# Altium schematic symbol library SpaceVNXBaseBoard.SCHLIB: 96 symbols (part 2 of 3)
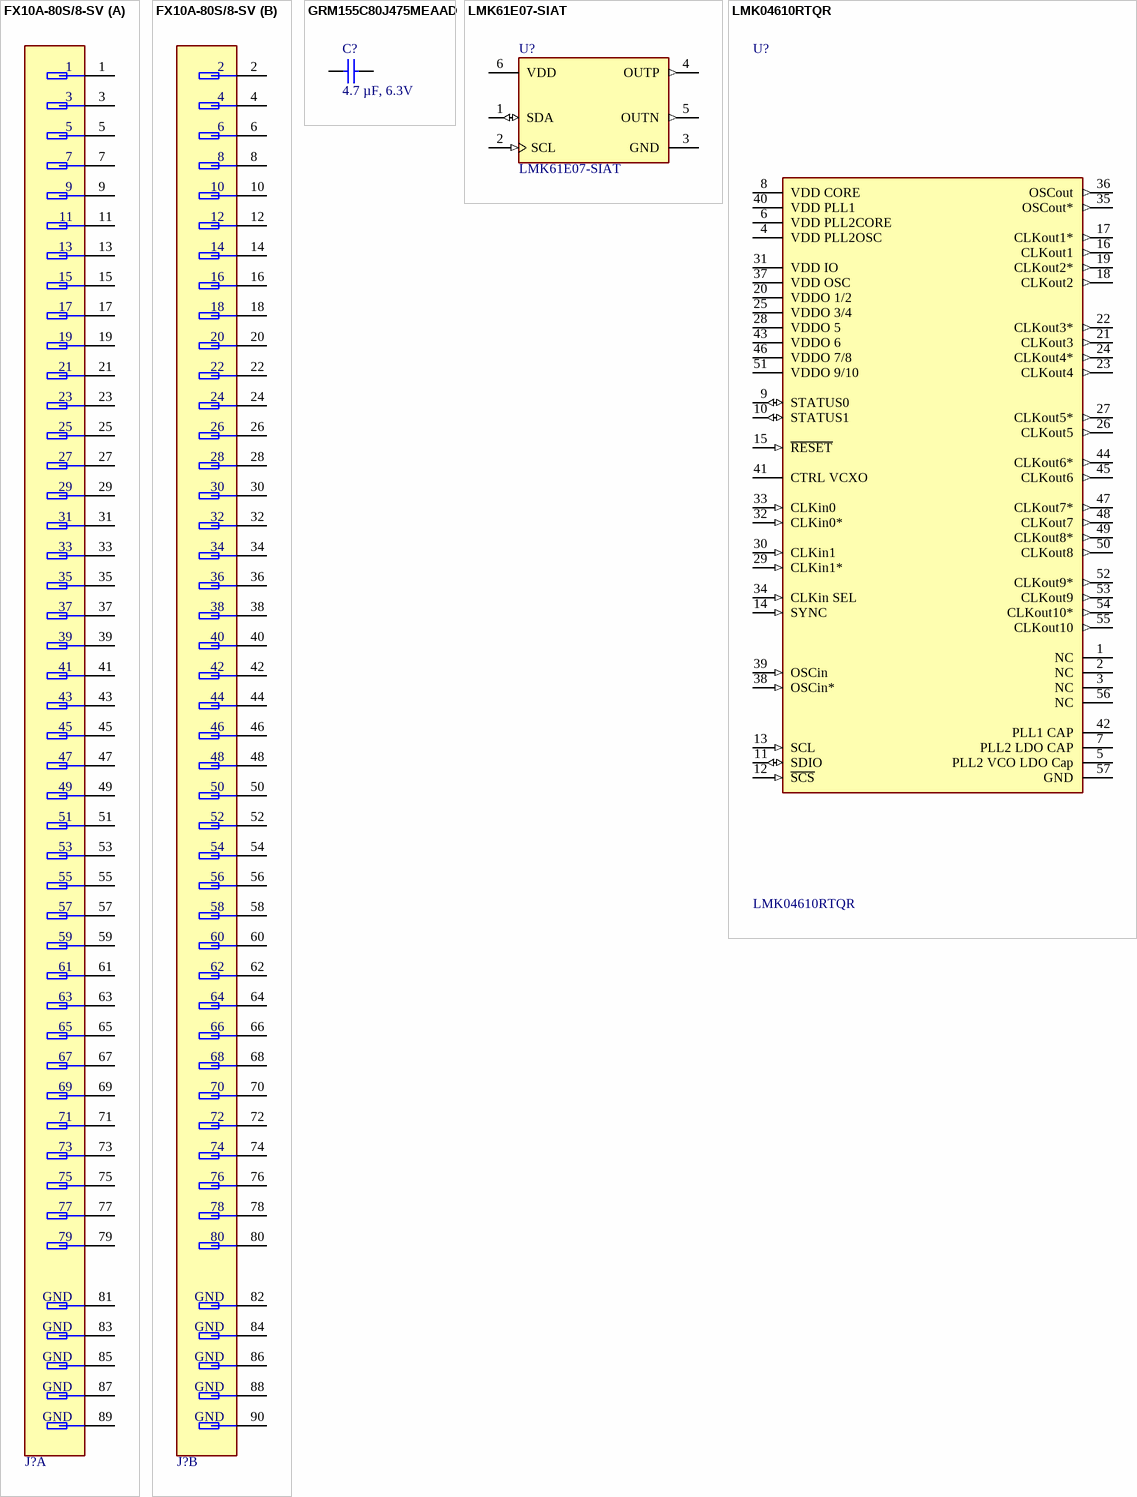
[diagram p13: symbols FX10A-80S/8-SV to LMK04610RTQR]

## LMK04610RTQR
designator U?
Ultra low-noise and low power JESD204B compliant clock jitter cleaner with dual PLLs.; Number of outputs: 10; RMS jitter (fs): 65; Output frequency (Min) (MHz): 0.03; Output frequency (Max) (MHz): 2000; Function: Dual-loop PLL; Input type: LVCMOS, LVDS, LVPECL; Output type: LVDS, LVPECL; Supply voltage (Min) (V): 1.7; Supply voltage (Max) (V): 3.465; ComponentLink1Description: Manufacturer; ComponentLink1URL: https://www.ti.com/product/LMK04828; ComponentLink2Description: Datasheet; ComponentLink2URL: https://www.ti.com/lit/ds/symlink/lmk04828.pdf?ts=1643235840450&ref_url=https%253A%252F%252Fwww.ti.com%252Fproduct%252FLMK04828; ComponentLink3Description: Package Specification; ComponentLink3URL: https://www.ti.com/lit/ml/mpqs032a/mpqs032a.pdf?ts=1643290177634&ref_url=https%253A%252F%252Fwww.ti.com%252Fpackaging%252Fdocs%252Fsearchproductbypackage.tsp%253ForderablePartNumber%253D%2526packageDesignator%253DNKD%2526pinCount%253D64%2526results%253Dresults; Operating temperature range (ºC): -40ºC to 85ºC; Supplier 1: Digi-Key; Supplier 2: Digi-Key; Supplier Part Number 1: 296-51339-1-ND; Supplier Part Number 2: 296-51339-6-ND
footprint TEXAS_VQFN56 (RTQ, 0.5mm pitch, 8x8mm body)
pins: 1 NC, 2 NC, 3 NC, 4 VDD PLL2OSC (power), 5 PLL2 VCO LDO Cap (power), 6 VDD PLL2CORE (power), 7 PLL2 LDO CAP (power), 8 VDD CORE (power), 9 STATUS0 (io), 10 STATUS1 (io), 11 SDIO (io), 12 ~{SCS} (in), 13 SCL (in), 14 SYNC (in), 15 ~{RESET} (in), 16 CLKout1 (out), 17 CLKout1* (out), 18 CLKout2 (out), 19 CLKout2* (out), 20 VDDO 1/2 (power), 21 CLKout3 (out), 22 CLKout3* (out), 23 CLKout4 (out), 24 CLKout4* (out), 25 VDDO 3/4 (power), 26 CLKout5 (out), 27 CLKout5* (out), 28 VDDO 5 (power), 29 CLKin1* (in), 30 CLKin1 (in), 31 VDD IO (power), 32 CLKin0* (in), 33 CLKin0 (in), 34 CLKin SEL (in), 35 OSCout* (out), 36 OSCout (out), 37 VDD OSC (power), 38 OSCin* (in), 39 OSCin (in), 40 VDD PLL1 (power), 41 CTRL VCXO (power), 42 PLL1 CAP, 43 VDDO 6 (power), 44 CLKout6* (out), 45 CLKout6 (out), 46 VDDO 7/8 (power), 47 CLKout7* (out), 48 CLKout7 (out), 49 CLKout8* (out), 50 CLKout8 (out), 51 VDDO 9/10 (power), 52 CLKout9* (out), 53 CLKout9 (out), 54 CLKout10* (out), 55 CLKout10 (out), 56 NC, 57 GND (power)

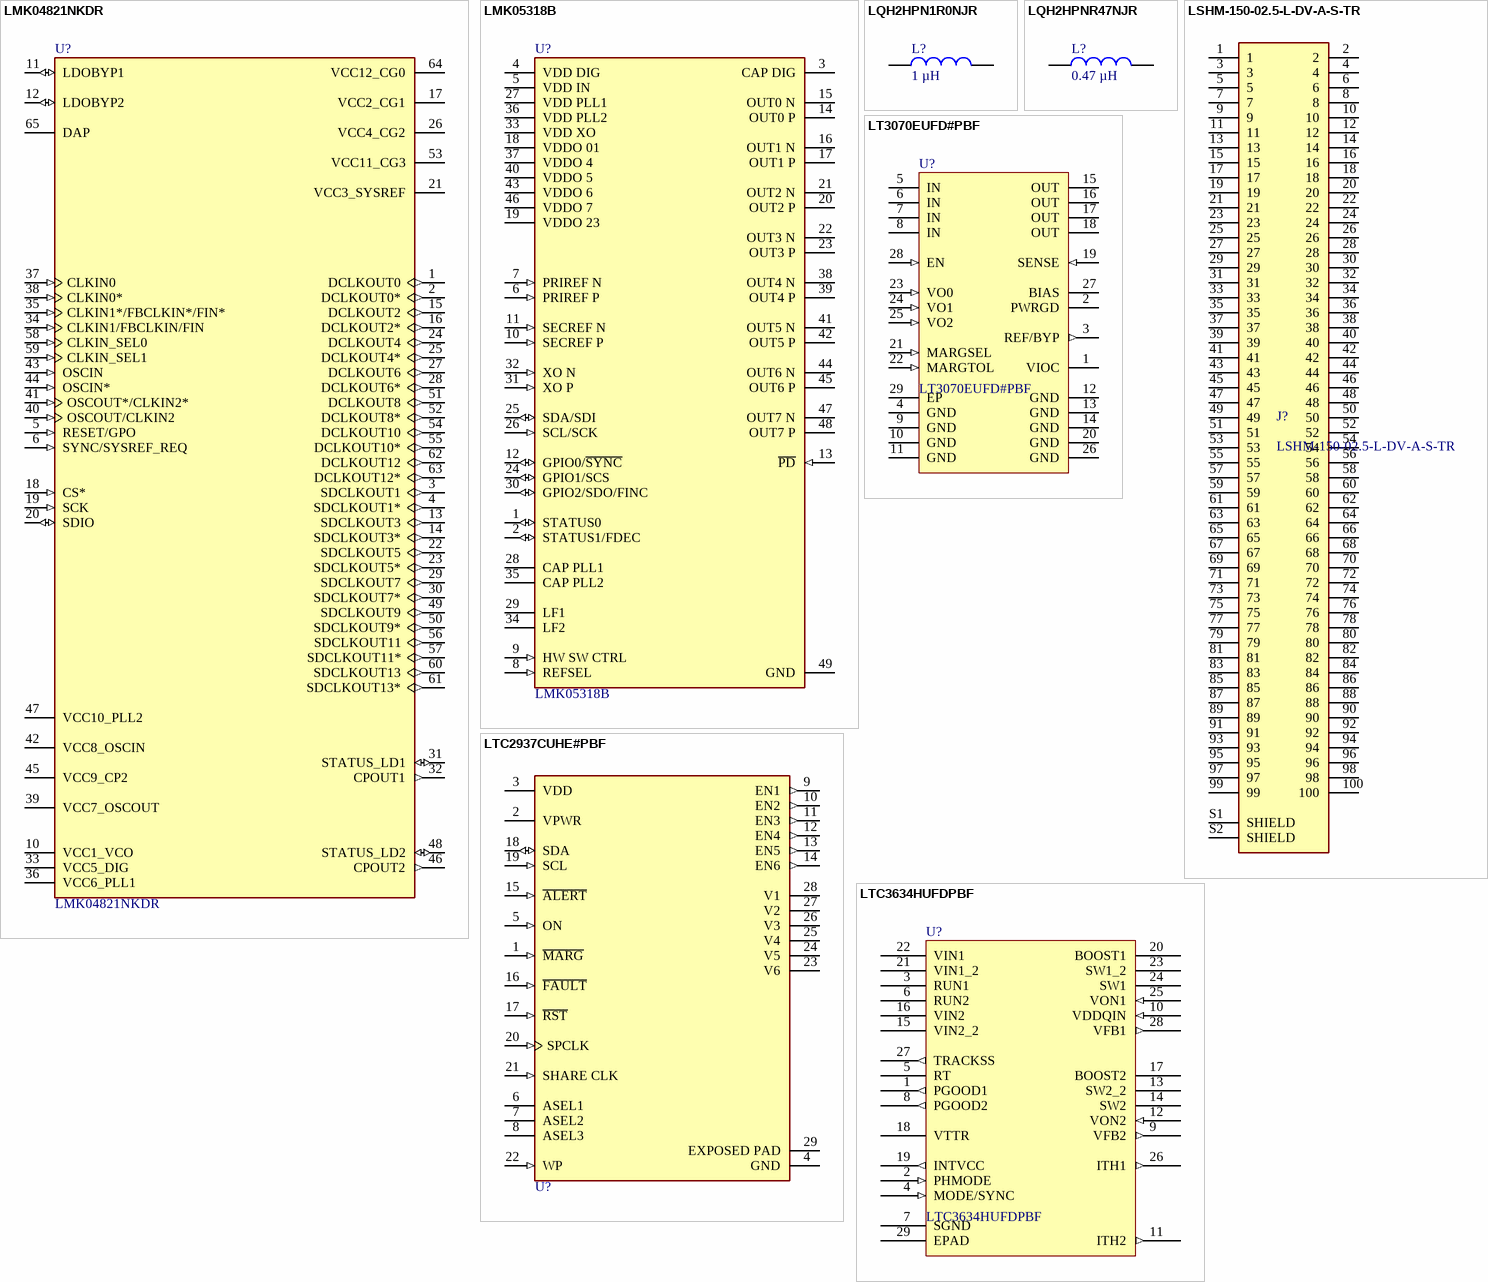
[diagram p3: symbols LMK04821NKDR to LTC3634HUFDPBF]

## LMK04821NKDR
designator U?
Ultra low-noise JESD204B compliant clock jitter cleaner with integrated 2370 to 2630-MHz VCO.; Number of outputs: 15; RMS jitter (fs): 88; Output frequency (Min) (MHz): 0.289; Output frequency (Max) (MHz): 3080; Function: Dual-loop PLL; Input type: LVCMOS, LVDS, LVPECL; Supply voltage (Min) (V): 3.15; Supply voltage (Max) (V): 3.45; ComponentLink1Description: Manufacturer; ComponentLink1URL: https://www.ti.com/product/LMK04828; ComponentLink2Description: Datasheet; ComponentLink2URL: https://www.ti.com/lit/ds/symlink/lmk04828.pdf?ts=1643235840450&ref_url=https%253A%252F%252Fwww.ti.com%252Fproduct%252FLMK04828; ComponentLink3Description: Package Specification; ComponentLink3URL: https://www.ti.com/lit/ml/mpqs032a/mpqs032a.pdf?ts=1643290177634&ref_url=https%253A%252F%252Fwww.ti.com%252Fpackaging%252Fdocs%252Fsearchproductbypackage.tsp%253ForderablePartNumber%253D%2526packageDesignator%253DNKD%2526pinCount%253D64%2526results%253Dresults; Output type: LVCMOS, LVDS, LVPECL; Operating temperature range (ºC): -40ºC to 85ºC; Supplier 1: Digi-Key; Supplier Part Number 1: LMK04821NKDR-ND
footprint TEXAS_WQFN64
pins: 1 DCLKOUT0 (out), 2 DCLKOUT0* (out), 3 SDCLKOUT1 (out), 4 SDCLKOUT1* (out), 5 RESET/GPO (in), 6 SYNC/SYSREF_REQ (in), 10 VCC1_VCO (power), 11 LDOBYP1 (io), 12 LDOBYP2 (io), 13 SDCLKOUT3 (out), 14 SDCLKOUT3* (out), 15 DCLKOUT2 (out), 16 DCLKOUT2* (out), 17 VCC2_CG1 (power), 18 CS* (in), 19 SCK (in), 20 SDIO (io), 21 VCC3_SYSREF (power), 22 SDCLKOUT5 (out), 23 SDCLKOUT5* (out), 24 DCLKOUT4 (out), 25 DCLKOUT4* (out), 26 VCC4_CG2 (power), 27 DCLKOUT6 (out), 28 DCLKOUT6* (out), 29 SDCLKOUT7 (out), 30 SDCLKOUT7* (out), 31 STATUS_LD1 (io), 32 CPOUT1 (out), 33 VCC5_DIG (power), 34 CLKIN1/FBCLKIN/FIN (in), 35 CLKIN1*/FBCLKIN*/FIN* (in), 36 VCC6_PLL1 (power), 37 CLKIN0 (in), 38 CLKIN0* (in), 39 VCC7_OSCOUT (power), 40 OSCOUT/CLKIN2 (in), 41 OSCOUT*/CLKIN2* (in), 42 VCC8_OSCIN (power), 43 OSCIN (in), 44 OSCIN* (in), 45 VCC9_CP2 (power), 46 CPOUT2 (out), 47 VCC10_PLL2 (power), 48 STATUS_LD2 (io), 49 SDCLKOUT9 (out), 50 SDCLKOUT9* (out), 51 DCLKOUT8 (out), 52 DCLKOUT8* (out), 53 VCC11_CG3 (power), 54 DCLKOUT10 (out), 55 DCLKOUT10* (out), 56 SDCLKOUT11 (out), 57 SDCLKOUT11* (out), 58 CLKIN_SEL0 (in), 59 CLKIN_SEL1 (in), 60 SDCLKOUT13 (out), 61 SDCLKOUT13* (out), 62 DCLKOUT12 (out), 63 DCLKOUT12* (out), 64 VCC12_CG0 (power), 65 DAP (power)

## LMK05318B
designator U?
Ultra-low jitter single channel network synchronizer clock with BAW; Input type: LVCMOS, LVDS, LVPECL, XTAL; Output type: LVDS, CML, LVPECL, HCSL, LVCMOS; Output frequency (Min) (MHz): 0.000001; Output frequency (Max) (MHz): 800; Supply voltage (Min) (V): 3.135; Supply voltage (Max) (V): 3.465; RMS jitter (fs): 50; Number of outputs: 8; Function: Clock network synchronizer; Operating temperature range (C): -40 to 85; Package: VQFN48; Supplier 1: Digi-Key; Supplier 2: Mouser; Supplier Part Number 1: 296-LMK05318BRGZTCT-ND; Supplier Part Number 2: 595-LMK05318BRGZT
footprint TEXAS_VQFN48 (RGZ, 0.5mm pitch, 7x7mm body)
pins: 1 STATUS0 (io), 2 STATUS1/FDEC (io), 3 CAP DIG, 4 VDD DIG (power), 5 VDD IN (power), 6 PRIREF P (in), 7 PRIREF N (in), 8 REFSEL (in), 9 HW SW CTRL (in), 10 SECREF P (in), 11 SECREF N (in), 12 GPIO0/~{SYNC} (io), 13 ~{PD} (in), 14 OUT0 P, 15 OUT0 N, 16 OUT1 N, 17 OUT1 P, 18 VDDO 01 (power), 19 VDDO 23 (power), 20 OUT2 P, 21 OUT2 N, 22 OUT3 N, 23 OUT3 P, 24 GPIO1/SCS (io), 25 SDA/SDI (io), 26 SCL/SCK (in), 27 VDD PLL1 (power), 28 CAP PLL1, 29 LF1, 30 GPIO2/SDO/FINC (io), 31 XO P (in), 32 XO N (in), 33 VDD XO (power), 34 LF2, 35 CAP PLL2, 36 VDD PLL2 (power), 37 VDDO 4 (power), 38 OUT4 N, 39 OUT4 P, 40 VDDO 5 (power), 41 OUT5 N, 42 OUT5 P, 43 VDDO 6 (power), 44 OUT6 N, 45 OUT6 P, 46 VDDO 7 (power), 47 OUT7 N, 48 OUT7 P, 49 GND (power)

## LQH2HPN1R0NJR
designator L?, comment 1 µH
Wire Wound Ferrite Inductor; Manufacturer: Murata; Inductance: 470 nH - 22 µH; AEC 200: Grade 0; Length (mm): 2.5; Width (mm): 2; ComponentLink1Description: Manufacturer; ComponentLink1URL: https://www.murata.com/search/productsearch?cate=cgInductors&partno=LQH2HPN_JR&realtime=1&sort=d_inductance; Height (mm): 1.2; Operating temperature range (C): −40°C to +125°C; Series: LQH2HPN_JR; Supplier 1: Digi-Key; Supplier 2: Mouser; Supplier Part Number 1: 490-9898-1-ND; Supplier Part Number 2: 81-LQH2HPN1R0NJRL
footprint Murata_LQH2HPN_JR (1008 (2520))
pins: 1, 2

## LQH2HPNR47NJR
designator L?, comment 0.47 µH
Wire Wound Ferrite Inductor; Manufacturer: Murata; Inductance: 470 nH - 22 µH; AEC 200: Grade 0; Length (mm): 2.5; Width (mm): 2; ComponentLink1Description: Manufacturer; ComponentLink1URL: https://www.murata.com/search/productsearch?cate=cgInductors&partno=LQH2HPN_JR&realtime=1&sort=d_inductance; Height (mm): 1.2; Operating temperature range (C): −40°C to +125°C; Series: LQH2HPN_JR; Supplier 1: Digi-Key; Supplier 2: Mouser; Supplier Part Number 1: 490-9906-1-ND; Supplier Part Number 2: 81-LQH2HPNR47NJRL
footprint Murata_LQH2HPN_JR (1008 (2520))
pins: 1, 2

## LSHM-150-02.5-L-DV-A-S-TR
designator J?
100 Position Connector Self Mating, Non-Gendered Surface Mount Gold; ComponentLink1Description: Manufacturer; ComponentLink1URL: https://www.samtec.com/products/lshm; System: Connector
footprint SAMTEC_LSHM-150-02.5-L-DV-A-S-TR
pins: 1, 2, 3, 4, 5, 6, 7, 8, 9, 10, 11, 12, 13, 14, 15, 16, 17, 18, 19, 20, 21, 22, 23, 24, 25, 26, 27, 28, 29, 30, 31, 32, 33, 34, 35, 36, 37, 38, 39, 40, 41, 42, 43, 44, 45, 46, 47, 48, 49, 50, 51, 52, 53, 54, 55, 56, 57, 58, 59, 60, 61, 62, 63, 64, 65, 66, 67, 68, 69, 70, 71, 72, 73, 74, 75, 76, 77, 78, 79, 80, 81, 82, 83, 84, 85, 86, 87, 88, 89, 90, 91, 92, 93, 94, 95, 96, 97, 98, 99, 100, S1 SHIELD, S2 SHIELD

## LT3070EUFD#PBF
designator U?
5 A, Low Noise, Programmable Output 85 mV Dropout Linear Regulator, 0.95 to 3 V Vin, Adjustable Vout, 28-pin QFN (UFD-28), -40 to 125 degC, Pb-Free; Manufacturer: Linear Technology; Iout(mA): 5000; Vin Min(V): 0.95; Number of Outputs: 1; PSRR(dB): 72; Vin Max(V): 3; Noise(uV): 25; Vout Min(V): 0.8; Dropout Voltage(V): 0.085; Discrete Pass Element: no; Output Voltage: Adj; Vout Max(V): 1.8; PartNumber: LT3070EUFD#PBF; Isupply(mA): 1; Mounting Technology: Surface Mount; PackageReference: UFD-28; PackageDescription: 28-Pin Plastic QFN, Body 5 x 4 mm, Pitch 0.5 mm; Supplier 1: Mouser; Supplier Part Number 1: 584-LT3070EUFD#PBF
footprint LTC_QFN28_UFD (28-Lead Plastic QFN (4mm × 5mm))
pins: 1 VIOC (power) "Voltage for In-to-Out Control. The IC incorporates a unique tracking function to control a buck regulator powering the LT3070’s input. The VIOC pin is the output of this tracking function that drives the buck regulator t(See Datasheet)", 2 PWRGD (oc) "Power Good. The PWRGD pin is an open-drain NMOS output that actively pulls low if any one of these fault modes is detected: • VOUT is less than 90% of VOUT(NOMINAL) on the rising edge of VOUT . • VOUT drops below 85%(See Datasheet)", 3 REF/BYP (out) "Reference Filter. The pin is the output of the bandgap reference and has an impedance of approximately 19kohm. This pin must not be externally loaded. Bypassing the REF/BYP pin to GND with a 10nF capacitor decreases output (See Datasheet)", 4 GND (power) "Ground. The exposed pad (Pin 29) of the QFN package is an electrical connection to GND. To ensure proper electrical and thermal performance, solder Pin 29 to the PCB ground and tie to all GND pins of the package. These GND (See Datasheet)", 5 IN (power) "Input Supply. These pins supply power to the high current pass transistor. Tie all IN pins together for proper performance. The LT3070 requires a bypass capacitor at IN to maintain stability and low input impedance over (See Datasheet)", 6 IN (power) "Input Supply. These pins supply power to the high current pass transistor. Tie all IN pins together for proper performance. The LT3070 requires a bypass capacitor at IN to maintain stability and low input impedance over (See Datasheet)", 7 IN (power) "Input Supply. These pins supply power to the high current pass transistor. Tie all IN pins together for proper performance. The LT3070 requires a bypass capacitor at IN to maintain stability and low input impedance over (See Datasheet)", 8 IN (power) "Input Supply. These pins supply power to the high current pass transistor. Tie all IN pins together for proper performance. The LT3070 requires a bypass capacitor at IN to maintain stability and low input impedance over (See Datasheet)", 9 GND (power) "Ground. The exposed pad (Pin 29) of the QFN package is an electrical connection to GND. To ensure proper electrical and thermal performance, solder Pin 29 to the PCB ground and tie to all GND pins of the package. These GND (See Datasheet)", 10 GND (power) "Ground. The exposed pad (Pin 29) of the QFN package is an electrical connection to GND. To ensure proper electrical and thermal performance, solder Pin 29 to the PCB ground and tie to all GND pins of the package. These GND (See Datasheet)", 11 GND (power) "Ground. The exposed pad (Pin 29) of the QFN package is an electrical connection to GND. To ensure proper electrical and thermal performance, solder Pin 29 to the PCB ground and tie to all GND pins of the package. These GND (See Datasheet)", 12 GND (power) "Ground. The exposed pad (Pin 29) of the QFN package is an electrical connection to GND. To ensure proper electrical and thermal performance, solder Pin 29 to the PCB ground and tie to all GND pins of the package. These GND (See Datasheet)", 13 GND (power) "Ground. The exposed pad (Pin 29) of the QFN package is an electrical connection to GND. To ensure proper electrical and thermal performance, solder Pin 29 to the PCB ground and tie to all GND pins of the package. These GND (See Datasheet)", 14 GND (power) "Ground. The exposed pad (Pin 29) of the QFN package is an electrical connection to GND. To ensure proper electrical and thermal performance, solder Pin 29 to the PCB ground and tie to all GND pins of the package. These GND (See Datasheet)", 15 OUT (power) "Output. These pins supply power to the load. Tie all OUT pins together for proper performance. A minimum output capacitance of 15uF is required for stability. LTC recommends low ESR, X5R or X7R dielectric ceramic capacitors (See Datasheet)", 16 OUT (power) "Output. These pins supply power to the load. Tie all OUT pins together for proper performance. A minimum output capacitance of 15uF is required for stability. LTC recommends low ESR, X5R or X7R dielectric ceramic capacitors (See Datasheet)", 17 OUT (power) "Output. These pins supply power to the load. Tie all OUT pins together for proper performance. A minimum output capacitance of 15uF is required for stability. LTC recommends low ESR, X5R or X7R dielectric ceramic capacitors (See Datasheet)", 18 OUT (power) "Output. These pins supply power to the load. Tie all OUT pins together for proper performance. A minimum output capacitance of 15uF is required for stability. LTC recommends low ESR, X5R or X7R dielectric ceramic capacitors (See Datasheet)", 19 SENSE (in) "Kelvin Sense for OUT . The SENSE pin is the inverting input to the error amplifier. Optimum regulation is obtained when the SENSE pin is connected to the OUT pins of the regulator. In critical applications, the resistance (See Datasheet)", 20 GND (power) "Ground. The exposed pad (Pin 29) of the QFN package is an electrical connection to GND. To ensure proper electrical and thermal performance, solder Pin 29 to the PCB ground and tie to all GND pins of the package. These GND (See Datasheet)", 21 MARGSEL (in) "Margining Enable and Polarity Selection. This three-state pin determines both the polarity and the active state of the margining function. The logic low threshold is less than 250mV referenced to GND and enables negative (See Datasheet)", 22 MARGTOL (in) "Margining Tolerance. This three-state pin selects the absolute value of margining (1%, 3% or 5%) if enabled by the MARGSEL input. The logic low threshold is less than 250mV referenced to GND and enables either +/-1% change (See Datasheet)", 23 VO0 (in) "Output Voltage Select. These three-state pins combine to select a nominal output voltage from 0.8V to 1.8V in increments of 50mV. Output voltage is limited to 1.8V maximum by an internal override of VO1 when VO2 = high. The (See Datasheet)", 24 VO1 (in) "Output Voltage Select. These three-state pins combine to select a nominal output voltage from 0.8V to 1.8V in increments of 50mV. Output voltage is limited to 1.8V maximum by an internal override of VO1 when VO2 = high. The (See Datasheet)", 25 VO2 (in) "Output Voltage Select. These three-state pins combine to select a nominal output voltage from 0.8V to 1.8V in increments of 50mV. Output voltage is limited to 1.8V maximum by an internal override of VO1 when VO2 = high. The (See Datasheet)", 26 GND (power) "Ground. The exposed pad (Pin 29) of the QFN package is an electrical connection to GND. To ensure proper electrical and thermal performance, solder Pin 29 to the PCB ground and tie to all GND pins of the package. These GND (See Datasheet)", 27 BIAS (power) "Bias Supply. This pin supplies current to the internal control circuitry and the output stage driving the pass transistor. The LT3070 requires a minimum 2.2uF bypass capacitor for stability and proper operation. To ensure (See Datasheet)", 28 EN (in) "Enable. This pin enables/disables the output device only. The internal reference and all support functions are active if VBIAS is above its UVLO threshold. Pulling EN low keeps the reference circuit active, but disables the (See Datasheet)", 29 EP (power) "Ground. The exposed pad (Pin 29) of the QFN package is an electrical connection to GND. To ensure proper electrical and thermal performance, solder Pin 29 to the PCB ground and tie to all GND pins of the package. These GND (See Datasheet)"

## LTC2937CUHE#PBF
designator U?  (value not drawn)
Programmable Six Channel Sequencer and Voltage Supervisor with EEPROM
footprint LTC_QFN28_UHE (28-Lead (5mm × 6mm) Plastic QFN)
pins: 1 ~{MARG} (in), 2 VPWR (power), 3 VDD (power), 4 GND (power), 5 ON (in), 6 ASEL1, 7 ASEL2, 8 ASEL3, 9 EN1 (out), 10 EN2 (out), 11 EN3 (out), 12 EN4 (out), 13 EN5 (out), 14 EN6 (out), 15 ~{ALERT} (in), 16 ~{FAULT} (in), 17 ~{RST} (in), 18 SDA (io), 19 SCL (in), 20 SPCLK (in), 21 SHARE CLK (in), 22 WP (in), 23 V6 (power), 24 V5 (power), 25 V4 (power), 26 V3 (power), 27 V2 (power), 28 V1 (power), 29 EXPOSED PAD (power)

## LTC3634HUFDPBF
designator U?
15V Dual 3A Monolithic Step-Down Regulator for DDR Power; Input Voltage Range: 3.6V to 15V; Maximun Efficiency: 95%; Switching Frequency: 500kHz to 4MHz; Output Current per Channel: ±3A; Package: UFD QFN 28; Supplier 1: Mouser; Supplier Part Number 1: 584-LTC3634EUFD#PBF
footprint LTC_QFN28_UFD (28-Lead Plastic QFN (4mm × 5mm))
pins: 1 PGOOD1 (out), 2 PHMODE (in), 3 RUN1, 4 MODE/SYNC (in), 5 RT, 6 RUN2, 7 SGND (power), 8 PGOOD2 (out), 9 VFB2 (out), 10 VDDQIN (in), 11 ITH2 (out), 12 VON2 (in), 13 SW2_2, 14 SW2, 15 VIN2_2 (power), 16 VIN2 (power), 17 BOOST2, 18 VTTR (power), 19 INTVCC (out), 20 BOOST1, 21 VIN1_2 (power), 22 VIN1 (power), 23 SW1_2, 24 SW1, 25 VON1 (in), 26 ITH1 (out), 27 TRACKSS (out), 28 VFB1 (out), 29 EPAD

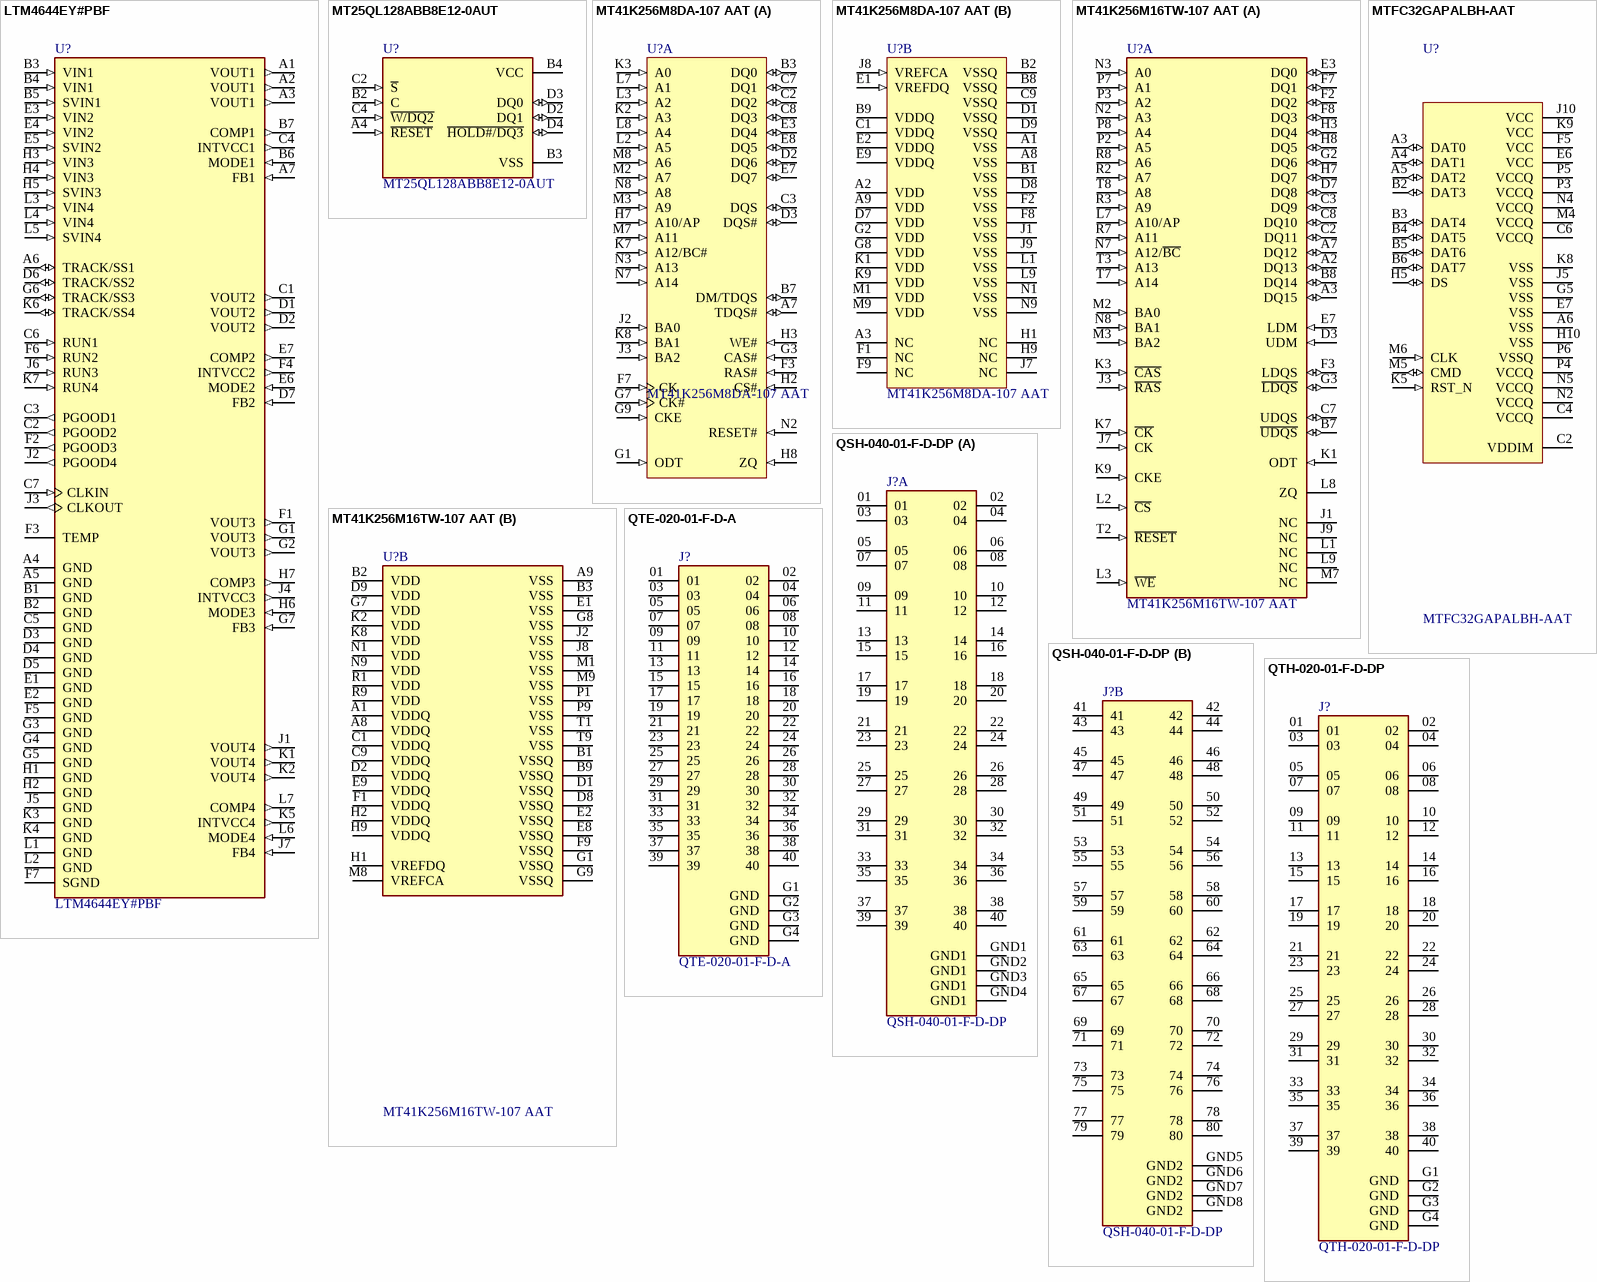
[diagram p4: symbols LTM4644EY#PBF to QTH-020-01-F-D-DP]

## LTM4644EY#PBF
designator U?
Non-Isolated PoL Module DC DC Converter 4 Output 0.6 ~ 5.5V 0.6 ~ 5.5V 0.6 ~ 5.5V 0.6 ~ 5.5V 4A, 4A, 4A, 4A 4V - 14V Input; Input Voltage Range: 4V to 14V; Number of Outputs: 4; Output Current: 4A; Package: 9mm × 15mm × 5.01mm BGA; Supplier 1: Mouser; Supplier Part Number 1: 584-LTM4644EY#PBF
footprint LTC_BGA77
pins: A1 VOUT1 (out), A2 VOUT1 (out), A3 VOUT1 (out), A4 GND (power), A5 GND (power), A6 TRACK/SS1 (io), A7 FB1 (in), B1 GND (power), B2 GND (power), B3 VIN1 (in), B4 VIN1 (in), B5 SVIN1 (in), B6 MODE1 (in), B7 COMP1 (out), C1 VOUT2 (out), C2 PGOOD2 (out), C3 PGOOD1 (out), C4 INTVCC1 (out), C5 GND (power), C6 RUN1 (in), C7 CLKIN (in), D1 VOUT2 (out), D2 VOUT2 (out), D3 GND (power), D4 GND (power), D5 GND (power), D6 TRACK/SS2 (io), D7 FB2 (in), E1 GND (power), E2 GND (power), E3 VIN2 (in), E4 VIN2 (in), E5 SVIN2 (in), E6 MODE2 (in), E7 COMP2 (out), F1 VOUT3 (out), F2 PGOOD3 (out), F3 TEMP, F4 INTVCC2 (out), F5 GND (power), F6 RUN2 (in), F7 SGND (power), G1 VOUT3 (out), G2 VOUT3 (out), G3 GND (power), G4 GND (power), G5 GND (power), G6 TRACK/SS3 (io), G7 FB3 (in), H1 GND (power), H2 GND (power), H3 VIN3 (in), H4 VIN3 (in), H5 SVIN3 (in), H6 MODE3 (in), H7 COMP3 (out), J1 VOUT4 (out), J2 PGOOD4 (out), J3 CLKOUT (out), J4 INTVCC3 (out), J5 GND (power), J6 RUN3 (in), J7 FB4 (in), K1 VOUT4 (out), K2 VOUT4 (out), K3 GND (power), K4 GND (power), K5 INTVCC4 (out), K6 TRACK/SS4 (io), K7 RUN4 (in), L1 GND (power), L2 GND (power), L3 VIN4 (in), L4 VIN4 (in), L5 SVIN4 (in), L6 MODE4 (in), L7 COMP4 (out)

## MT25QL128ABB8E12-0AUT
designator U?
NOR Serial Flash Memory 128Mb 3.3V Multiple I/O Automotive; MF: Micron Technology; FBGA Code: RW318; Density: 128Mb; Operating Temperature: -40ºC to +125ºC; Package: T-PBGA; Type: Multi I/O; Width: x1/x2/x4; Nominal Supply Voltage (DC): 3.3 V; Part Status: Production; ComponentLink1Description: Manufacturer URL; ComponentLink1URL: http://www.micron.com/; Supplier 1: Digi-Key; Supplier 2: Mouser; Supplier Part Number 1: MT25QL128ABB8E12-0AUT-ND; Supplier Part Number 2: 340-348677
footprint Micron_RW (24-Ball T-PBGA 6 x 8mm)
pins: A4 ~{RESET} (in), B2 C (in), B3 VSS (power), B4 VCC (power), C2 ~{S} (in), C4 ~{W/DQ2} (in), D2 DQ1 (io), D3 DQ0 (io), D4 ~{HOLD#/DQ3} (io)

## MT41K256M8DA-107 AAT
designator U?
DDR3L SDRAM; Data Rate: DDR3-1866; Density: 2Gb; FBGA Code: D9PST; Nominal Supply Voltage (DC): 1.35 V; ComponentLink1Description: Manufacturer URL; ComponentLink1URL: http://www.micron.com/; Operating Temperature: -40ºC to +105ºC; Width: x8; Part Status: Production; Depth: 256 Meg; Supplier 1: Mouser; Supplier Part Number 1: 340-135717-TRAY
footprint Micron_DA (78-Ball FBGA 8 x 10 mm)
part A pins: A7 TDQS# (io) "Termination data strobe: Applies to the x8 configuration only. When TDQS is enabled, DM is disabled, and the TDQS and TDQS# balls provide termination resistance.", B3 DQ0 (io) "Data input/output: Bidirectional data bus for the x8 configuration. DQ[7:0] are referenced to VREFDQ.", B7 DM/TDQS (io) "Input data mask: DM is an input mask signal for write data. Input data is masked when DM is sampled HIGH along with the input data during a write access. Although the DM ball is input-only, the DM loading is designed to (See Datasheet)", C2 DQ2 (io) "Data input/output: Bidirectional data bus for the x8 configuration. DQ[7:0] are referenced to VREFDQ.", C3 DQS (io) "Data strobe: Output with read data. Edge-aligned with read data. Input with write data. Center-aligned to write data.", C7 DQ1 (io) "Data input/output: Bidirectional data bus for the x8 configuration. DQ[7:0] are referenced to VREFDQ.", C8 DQ3 (io) "Data input/output: Bidirectional data bus for the x8 configuration. DQ[7:0] are referenced to VREFDQ.", D2 DQ6 (io) "Data input/output: Bidirectional data bus for the x8 configuration. DQ[7:0] are referenced to VREFDQ.", D3 DQS# (io) "Data strobe: Output with read data. Edge-aligned with read data. Input with write data. Center-aligned to write data.", E3 DQ4 (io) "Data input/output: Bidirectional data bus for the x8 configuration. DQ[7:0] are referenced to VREFDQ.", E7 DQ7 (io) "Data input/output: Bidirectional data bus for the x8 configuration. DQ[7:0] are referenced to VREFDQ.", E8 DQ5 (io) "Data input/output: Bidirectional data bus for the x8 configuration. DQ[7:0] are referenced to VREFDQ.", F3 RAS# (in) "Command inputs: RAS#, CAS#, and WE# (along with CS#) define the command being entered and are referenced to VREFCA.", F7 CK (in) "Clock: CK and CK# are differential clock inputs. All address and control input signals are sampled on the crossing of the positive edge of CK and the negative edge of CK#. Output data strobe (DQS, DQS#) is referenced to the (See Datasheet)", G1 ODT (in) "On-die termination: ODT enables (registered HIGH) and disables (registered LOW) termination resistance internal to the DDR3 SDRAM. When enabled in normal operation, ODT is only applied to each of the following balls: (See Datasheet)", G3 CAS# (in) "Command inputs: RAS#, CAS#, and WE# (along with CS#) define the command being entered and are referenced to VREFCA.", G7 CK# (in) "Clock: CK and CK# are differential clock inputs. All address and control input signals are sampled on the crossing of the positive edge of CK and the negative edge of CK#. Output data strobe (DQS, DQS#) is referenced to the (See Datasheet)", G9 CKE (in) "Clock enable: CKE enables (registered HIGH) and disables (registered LOW) internal circuitry and clocks on the DRAM. The specific circuitry that is enabled/disabled is dependent upon the DDR3 SDRAM configuration and (See Datasheet)", H2 CS# (in) "Chip select: CS# enables (registered LOW) and disables (registered HIGH) the command decoder. All commands are masked when CS# is registered HIGH. CS# provides for external rank selection on systems with multiple ranks. CS# (See Datasheet)", H3 WE# (in) "Command inputs: RAS#, CAS#, and WE# (along with CS#) define the command being entered and are referenced to VREFCA.", H7 A10/AP (in) "Address inputs: Provide the row address for ACTIVATE commands, and the column address and auto precharge bit (A10) for READ/WRITE commands, to select one location out of the memory array in the respective bank. A10 sampled (See Datasheet)", H8 ZQ (in) "External reference ball for output drive calibration: This ball is tied to an external 240ohm resistor (RZQ), which is tied to VSSQ.", J2 BA0 (in) "Bank address inputs: BA[2:0] define the bank to which an ACTIVATE, READ, WRITE, or PRECHARGE command is being applied. BA[2:0] define which mode register (MR0, MR1, MR2, or MR3) is loaded during the LOAD MODE command. (See Datasheet)", J3 BA2 (in) "Bank address inputs: BA[2:0] define the bank to which an ACTIVATE, READ, WRITE, or PRECHARGE command is being applied. BA[2:0] define which mode register (MR0, MR1, MR2, or MR3) is loaded during the LOAD MODE command. (See Datasheet)", K2 A3 (in) "Address inputs: Provide the row address for ACTIVATE commands, and the column address and auto precharge bit (A10) for READ/WRITE commands, to select one location out of the memory array in the respective bank. A10 sampled (See Datasheet)", K3 A0 (in) "Address inputs: Provide the row address for ACTIVATE commands, and the column address and auto precharge bit (A10) for READ/WRITE commands, to select one location out of the memory array in the respective bank. A10 sampled (See Datasheet)", K7 A12/BC# (in) "Address inputs: Provide the row address for ACTIVATE commands, and the column address and auto precharge bit (A10) for READ/WRITE commands, to select one location out of the memory array in the respective bank. A10 sampled (See Datasheet)", K8 BA1 (in) "Bank address inputs: BA[2:0] define the bank to which an ACTIVATE, READ, WRITE, or PRECHARGE command is being applied. BA[2:0] define which mode register (MR0, MR1, MR2, or MR3) is loaded during the LOAD MODE command. (See Datasheet)", L2 A5 (in) "Address inputs: Provide the row address for ACTIVATE commands, and the column address and auto precharge bit (A10) for READ/WRITE commands, to select one location out of the memory array in the respective bank. A10 sampled (See Datasheet)", L3 A2 (in) "Address inputs: Provide the row address for ACTIVATE commands, and the column address and auto precharge bit (A10) for READ/WRITE commands, to select one location out of the memory array in the respective bank. A10 sampled (See Datasheet)", L7 A1 (in) "Address inputs: Provide the row address for ACTIVATE commands, and the column address and auto precharge bit (A10) for READ/WRITE commands, to select one location out of the memory array in the respective bank. A10 sampled (See Datasheet)", L8 A4 (in) "Address inputs: Provide the row address for ACTIVATE commands, and the column address and auto precharge bit (A10) for READ/WRITE commands, to select one location out of the memory array in the respective bank. A10 sampled (See Datasheet)", M2 A7 (in) "Address inputs: Provide the row address for ACTIVATE commands, and the column address and auto precharge bit (A10) for READ/WRITE commands, to select one location out of the memory array in the respective bank. A10 sampled (See Datasheet)", M3 A9 (in) "Address inputs: Provide the row address for ACTIVATE commands, and the column address and auto precharge bit (A10) for READ/WRITE commands, to select one location out of the memory array in the respective bank. A10 sampled (See Datasheet)", M7 A11 (in) "Address inputs: Provide the row address for ACTIVATE commands, and the column address and auto precharge bit (A10) for READ/WRITE commands, to select one location out of the memory array in the respective bank. A10 sampled (See Datasheet)", M8 A6 (in) "Address inputs: Provide the row address for ACTIVATE commands, and the column address and auto precharge bit (A10) for READ/WRITE commands, to select one location out of the memory array in the respective bank. A10 sampled (See Datasheet)", N2 RESET# (in) "Reset: RESET# is an active LOW CMOS input referenced to VSS. The RESET# input receiver is a CMOS input defined as a rail-to-rail signal with DC HIGH >= 0.8 x VDDQ and DC LOW =< 0.2 x VDDQ. RESET# assertion and deassertion (See Datasheet)", N3 A13 (in) "Address inputs: Provide the row address for ACTIVATE commands, and the column address and auto precharge bit (A10) for READ/WRITE commands, to select one location out of the memory array in the respective bank. A10 sampled (See Datasheet)", N7 A14 (in) "Address inputs: Provide the row address for ACTIVATE commands, and the column address and auto precharge bit (A10) for READ/WRITE commands, to select one location out of the memory array in the respective bank. A10 sampled (See Datasheet)", N8 A8 (in) "Address inputs: Provide the row address for ACTIVATE commands, and the column address and auto precharge bit (A10) for READ/WRITE commands, to select one location out of the memory array in the respective bank. A10 sampled (See Datasheet)"
part B pins: A1 VSS (power) "Ground.", A2 VDD (power) "Power supply: 1.35V, 1.283-1.45V operational; compatible to 1.5V operation.", A3 NC "No connect: These balls should be left unconnected (the ball has no connection to the DRAM or to other balls).", A8 VSS (power) "Ground.", A9 VDD (power) "Power supply: 1.35V, 1.283-1.45V operational; compatible to 1.5V operation.", B1 VSS (power) "Ground.", B2 VSSQ (power) "DQ ground: Isolated on the device for improved noise immunity.", B8 VSSQ (power) "DQ ground: Isolated on the device for improved noise immunity.", B9 VDDQ (power) "DQ power supply: 1.35V, 1.283-1.45V operational; compatible with 1.5V operation.", C1 VDDQ (power) "DQ power supply: 1.35V, 1.283-1.45V operational; compatible with 1.5V operation.", C9 VSSQ (power) "DQ ground: Isolated on the device for improved noise immunity.", D1 VSSQ (power) "DQ ground: Isolated on the device for improved noise immunity.", D7 VDD (power) "Power supply: 1.35V, 1.283-1.45V operational; compatible to 1.5V operation.", D8 VSS (power) "Ground.", D9 VSSQ (power) "DQ ground: Isolated on the device for improved noise immunity.", E1 VREFDQ (in) "Reference voltage for data: VREFDQ must be maintained at all times (including self refresh) for proper device operation.", E2 VDDQ (power) "DQ power supply: 1.35V, 1.283-1.45V operational; compatible with 1.5V operation.", E9 VDDQ (power) "DQ power supply: 1.35V, 1.283-1.45V operational; compatible with 1.5V operation.", F1 NC "No connect: These balls should be left unconnected (the ball has no connection to the DRAM or to other balls).", F2 VSS (power) "Ground.", F8 VSS (power) "Ground.", F9 NC "No connect: These balls should be left unconnected (the ball has no connection to the DRAM or to other balls).", G2 VDD (power) "Power supply: 1.35V, 1.283-1.45V operational; compatible to 1.5V operation.", G8 VDD (power) "Power supply: 1.35V, 1.283-1.45V operational; compatible to 1.5V operation.", H1 NC "No connect: These balls should be left unconnected (the ball has no connection to the DRAM or to other balls).", H9 NC "No connect: These balls should be left unconnected (the ball has no connection to the DRAM or to other balls).", J1 VSS (power) "Ground.", J7 NC "No connect: These balls should be left unconnected (the ball has no connection to the DRAM or to other balls).", J8 VREFCA (in) "Reference voltage for control, command, and address: VREFCA must be maintained at all times (including self refresh) for proper device operation.", J9 VSS (power) "Ground.", K1 VDD (power) "Power supply: 1.35V, 1.283-1.45V operational; compatible to 1.5V operation.", K9 VDD (power) "Power supply: 1.35V, 1.283-1.45V operational; compatible to 1.5V operation.", L1 VSS (power) "Ground.", L9 VSS (power) "Ground.", M1 VDD (power) "Power supply: 1.35V, 1.283-1.45V operational; compatible to 1.5V operation.", M9 VDD (power) "Power supply: 1.35V, 1.283-1.45V operational; compatible to 1.5V operation.", N1 VSS (power) "Ground.", N9 VSS (power) "Ground."

## MT41K256M16TW-107 AAT
designator U?
DDR3L SDRAM; Data Rate: DDR3-1866; Density: 4Gb; FBGA Code: D9SHM; Nominal Supply Voltage (DC): 1.35 V; Operating Temperature: -40ºC to +105ºC; Width: x16; Part Status: Production; Depth: 256 Meg; ComponentLink1Description: Manufacturer URL; ComponentLink1URL: http://www.micron.com/; Supplier 1: Digi-Key; Supplier 2: Mouser; Supplier Part Number 1: MT41K256M16TW-107IT:P-ND; Supplier Part Number 2: 340-265862-TRAY
footprint Micron_TW (96-Ball FBGA 8mm x 14 mm)
part A pins: A2 DQ13 (io), A3 DQ15 (io), A7 DQ12 (io), B7 ~{UDQS} (io), B8 DQ14 (io), C2 DQ11 (io), C3 DQ9 (io), C7 UDQS (io), C8 DQ10 (io), D3 UDM (in), D7 DQ8 (io), E3 DQ0 (io), E7 LDM (in), F2 DQ2 (io), F3 LDQS (io), F7 DQ1 (io), F8 DQ3 (io), G2 DQ6 (io), G3 ~{LDQS} (io), H3 DQ4 (io), H7 DQ7 (io), H8 DQ5 (io), J1 NC, J3 ~{RAS} (in), J7 CK (in), J9 NC, K1 ODT (in), K3 ~{CAS} (in), K7 ~{CK} (in), K9 CKE (in), L1 NC, L2 ~{CS} (in), L3 ~{WE} (in), L7 A10/AP (in), L8 ZQ, L9 NC, M2 BA0 (in), M3 BA2 (in), M7 NC, N2 A3 (in), N3 A0 (in), N7 A12/~{BC} (in), N8 BA1 (in), P2 A5 (in), P3 A2 (in), P7 A1 (in), P8 A4 (in), R2 A7 (in), R3 A9 (in), R7 A11 (in), R8 A6 (in), T2 ~{RESET} (in), T3 A13 (in), T7 A14 (in), T8 A8 (in)
part B pins: A1 VDDQ (power), A8 VDDQ (power), A9 VSS (power), B1 VSSQ (power), B2 VDD (power), B3 VSS (power), B9 VSSQ (power), C1 VDDQ (power), C9 VDDQ (power), D1 VSSQ (power), D2 VDDQ (power), D8 VSSQ (power), D9 VDD (power), E1 VSS (power), E2 VSSQ (power), E8 VSSQ (power), E9 VDDQ (power), F1 VDDQ (power), F9 VSSQ (power), G1 VSSQ (power), G7 VDD (power), G8 VSS (power), G9 VSSQ (power), H1 VREFDQ (power), H2 VDDQ (power), H9 VDDQ (power), J2 VSS (power), J8 VSS (power), K2 VDD (power), K8 VDD (power), M1 VSS (power), M8 VREFCA (power), M9 VSS (power), N1 VDD (power), N9 VDD (power), P1 VSS (power), P9 VSS (power), R1 VDD (power), R9 VDD (power), T1 VSS (power), T9 VSS (power)

## MTFC32GAPALBH-AAT
designator U?
Flash Memory Managed NAND e.MMC Automotive 32GB; MF: Micron Technology; FBGA Code: JWC65; Nominal Supply Voltage (DC): 3.3 V; Density: Density; Package: TFBGA; Operating Temperature: -40ºC to +105ºC; Width: x8; Part Status: Production; ComponentLink1Description: Manufacturer URL; ComponentLink1URL: http://www.micron.com/; Supplier 1: Digi-Key; Supplier 2: Mouser; Supplier Part Number 1: MTFC32GAPALBH-AAT-ND; Supplier Part Number 2: 340-349173-TRAY
footprint Micron_BH (153-Ball TFBGA 11.5 x 13 mm)
pins: A3 DAT0 (io), A4 DAT1 (io), A5 DAT2 (io), A6 VSS (power), B2 DAT3 (io), B3 DAT4 (io), B4 DAT5 (io), B5 DAT6 (io), B6 DAT7 (io), C2 VDDIM (power), C4 VCCQ (power), C6 VCCQ (power), E6 VCC (power), E7 VSS (power), F5 VCC (power), G5 VSS (power), H5 DS (io), H10 VSS (power), J5 VSS (power), J10 VCC (power), K5 RST_N (in), K8 VSS (power), K9 VCC (power), M4 VCCQ (power), M5 CMD (io), M6 CLK (in), N2 VCCQ (power), N4 VCCQ (power), N5 VCCQ (power), P3 VCCQ (power), P4 VCCQ (power), P5 VCCQ (power), P6 VSSQ (power)

## QSH-040-01-F-D-DP
designator J?
80 Position Connector Differential Pair Array, Female Surface Mount Gold; MF: Samtec; MP: QSH-040-01-F-D-DP; Supplier 1: Digi-Key; Supplier 2: Mouser; Supplier Part Number 1: SAM9794-ND; Supplier Part Number 2: 200-QSH04001FDDPA
footprint SAMTEC_QSH-040-01-X-D-DP
part A pins: 01, 02, 03, 04, 05, 06, 07, 08, 09, 10, 11, 12, 13, 14, 15, 16, 17, 18, 19, 20, 21, 22, 23, 24, 25, 26, 27, 28, 29, 30, 31, 32, 33, 34, 35, 36, 37, 38, 39, 40, GND1 (power), GND2 GND1 (power), GND3 GND1 (power), GND4 GND1 (power)
part B pins: 41, 42, 43, 44, 45, 46, 47, 48, 49, 50, 51, 52, 53, 54, 55, 56, 57, 58, 59, 60, 61, 62, 63, 64, 65, 66, 67, 68, 69, 70, 71, 72, 73, 74, 75, 76, 77, 78, 79, 80, GND5 GND2 (power), GND6 GND2 (power), GND7 GND2 (power), GND8 GND2 (power)

## QTE-020-01-F-D-A
designator J?
40 Position Connector Header, Outer Shroud Contacts Surface Mount Gold; MF: Samtec; MP: QTE-020-01-F-D-A; Supplier 1: Digi-Key; Supplier 2: Mouser; Supplier Part Number 1: SAM8846-ND; Supplier Part Number 2: 200-QTE02001FDA; System: Connector
footprint SAMTEC_QTE-020-01-X-D-A
pins: 01, 02, 03, 04, 05, 06, 07, 08, 09, 10, 11, 12, 13, 14, 15, 16, 17, 18, 19, 20, 21, 22, 23, 24, 25, 26, 27, 28, 29, 30, 31, 32, 33, 34, 35, 36, 37, 38, 39, 40, G1 GND (power), G2 GND (power), G3 GND (power), G4 GND (power)

## QTH-020-01-F-D-DP
designator J?
0.50 mm Q Pairs® High-Speed Ground Plane Terminal Strip, Differential Pair; MF: Samtec; System: Connector; MP: QTH-020-01-F-D-DP; ComponentLink1Description: MF; ComponentLink1URL: https://www.samtec.com/products/qth-dp; Supplier 1: Digi-Key; Supplier 2: Mouser; Supplier Part Number 1: QTH-020-01-F-D-DP-ND; Supplier Part Number 2: 200-QTH02001FDDP
footprint SAMTEC_QTH-020-01-X-D-DP-A
pins: 01, 02, 03, 04, 05, 06, 07, 08, 09, 10, 11, 12, 13, 14, 15, 16, 17, 18, 19, 20, 21, 22, 23, 24, 25, 26, 27, 28, 29, 30, 31, 32, 33, 34, 35, 36, 37, 38, 39, 40, G1 GND (power), G2 GND (power), G3 GND (power), G4 GND (power)

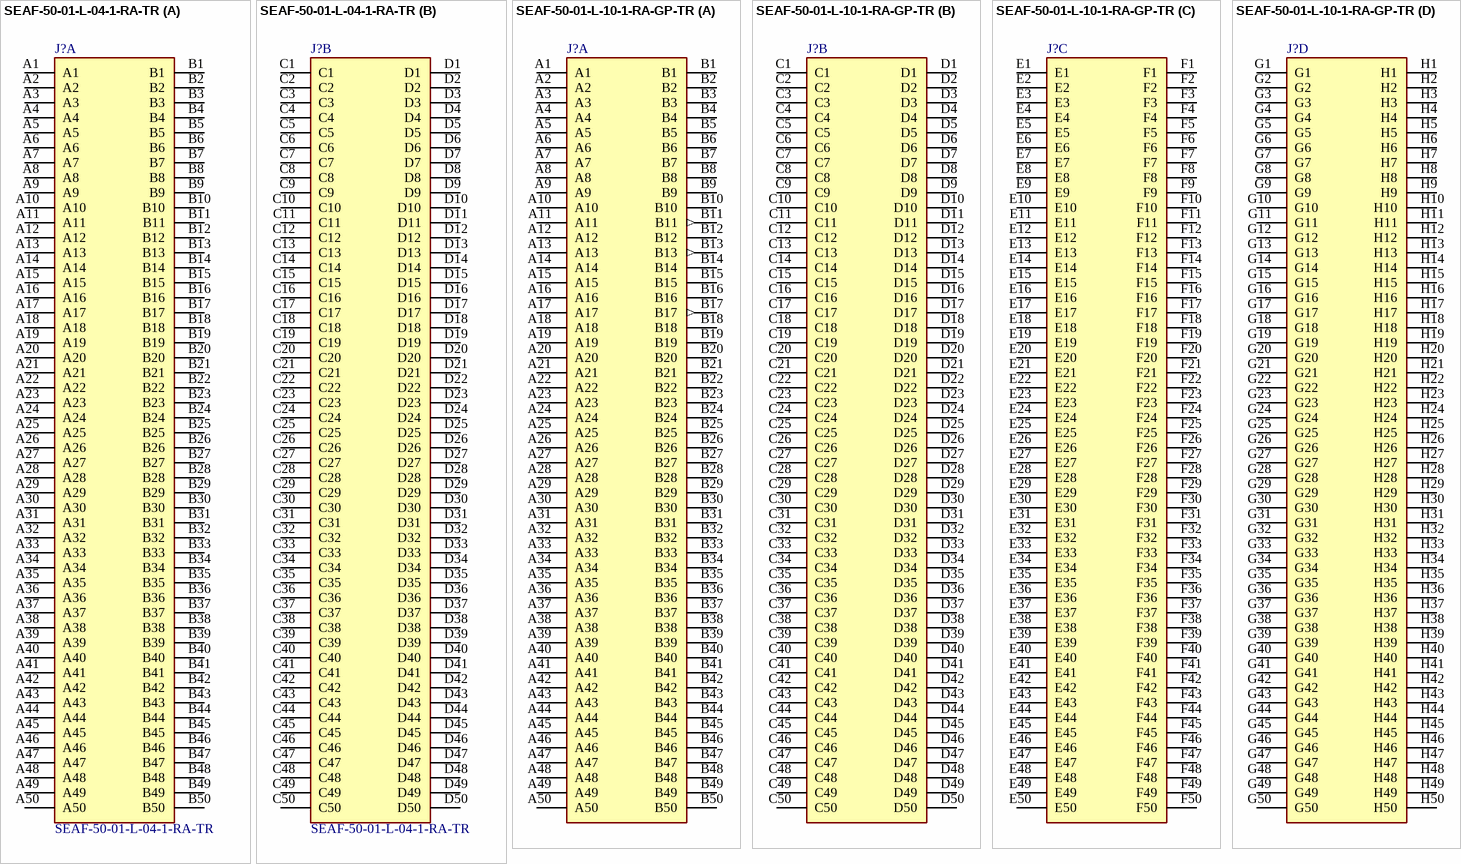
[diagram p5: symbols SEAF-50-01-L-04-1-RA-TR to SEAF-50-01-L-10-1-RA-GP-TR]

## SEAF-50-01-L-04-1-RA-TR
designator J?
200 Position Connector High Density Array, Female Surface Mount, Right Angle Gold  <a href="https://pricing.snapeda.com/parts/SEAF-50-01-L-04-1-RA-K-TR/Samtec/view-part?ref=eda">Check prices</a>; Supplier 1: Digi-Key; Supplier Part Number 1: SEAF-50-01-L-04-1-RA-TR-ND; System: Connector
footprint SAMTEC_SEAF-50-01-L-04-1-RA-TR
part A pins: A1, A2, A3, A4, A5, A6, A7, A8, A9, A10, A11, A12, A13, A14, A15, A16, A17, A18, A19, A20, A21, A22, A23, A24, A25, A26, A27, A28, A29, A30, A31, A32, A33, A34, A35, A36, A37, A38, A39, A40, A41, A42, A43, A44, A45, A46, A47, A48, A49, A50, B1, B2, B3, B4, B5, B6, B7, B8, B9, B10, B11, B12, B13, B14, B15, B16, B17, B18, B19, B20, B21, B22, B23, B24, B25, B26, B27, B28, B29, B30, B31, B32, B33, B34, B35, B36, B37, B38, B39, B40, B41, B42, B43, B44, B45, B46, B47, B48, B49, B50
part B pins: C1, C2, C3, C4, C5, C6, C7, C8, C9, C10, C11, C12, C13, C14, C15, C16, C17, C18, C19, C20, C21, C22, C23, C24, C25, C26, C27, C28, C29, C30, C31, C32, C33, C34, C35, C36, C37, C38, C39, C40, C41, C42, C43, C44, C45, C46, C47, C48, C49, C50, D1, D2, D3, D4, D5, D6, D7, D8, D9, D10, D11, D12, D13, D14, D15, D16, D17, D18, D19, D20, D21, D22, D23, D24, D25, D26, D27, D28, D29, D30, D31, D32, D33, D34, D35, D36, D37, D38, D39, D40, D41, D42, D43, D44, D45, D46, D47, D48, D49, D50

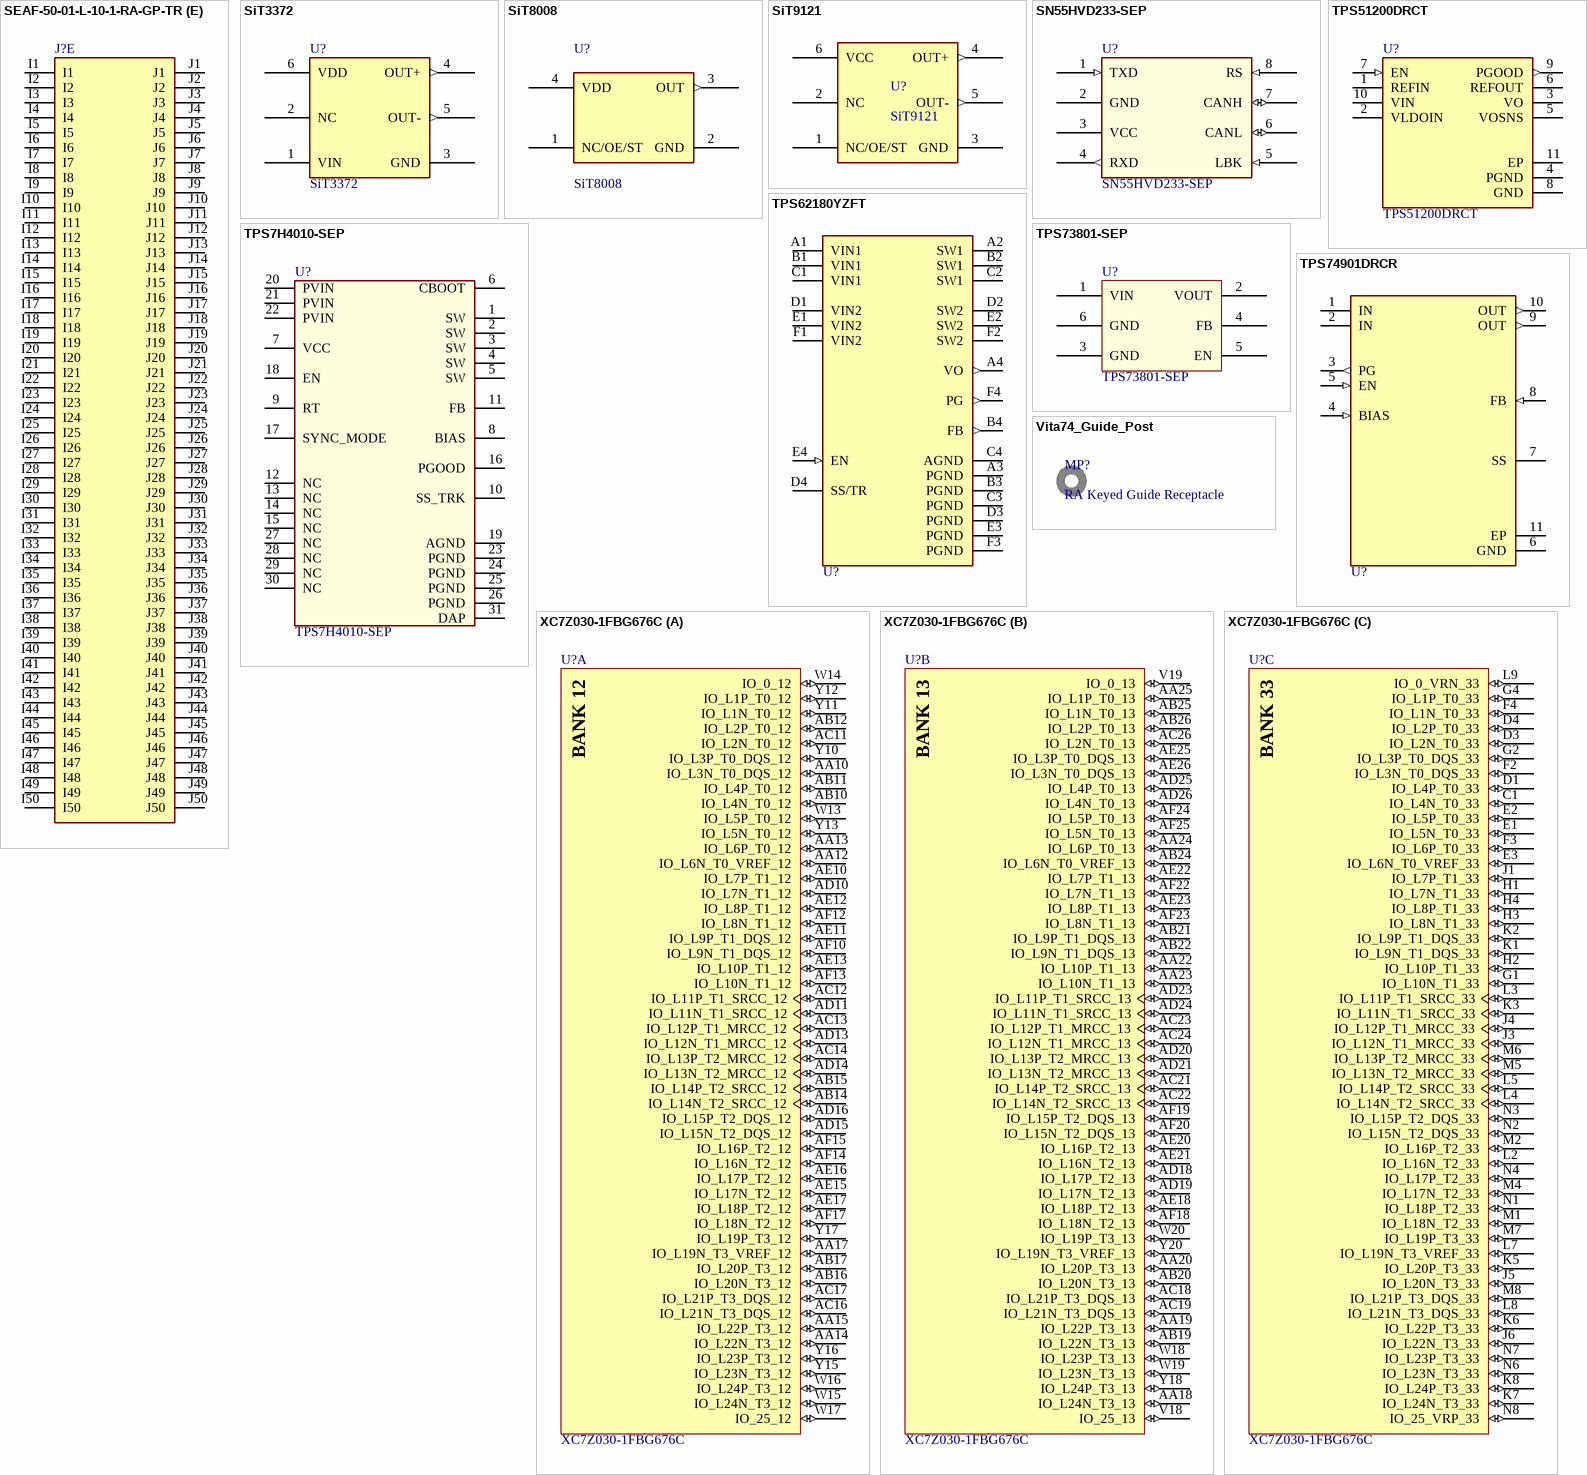
[diagram p6: symbols SEAF-50-01-L-10-1-RA-GP-TR to XC7Z030-1FBG676C]

## SEAF-50-01-L-10-1-RA-GP-TR
designator J?  (value not drawn)
500 Position Connector High Density Array, Female Surface Mount, Right Angle Gold; MF: Samtec; MP: SEAF-50-01-L-10-1-RA-GP-TR; Supplier 1: Digi-Key; Supplier Part Number 1: SEAF-50-01-L-10-1-RA-GP-TR-ND
footprint SAMTEC_SEAF-50-01-L-10-1-RA-GP-TR (High-Speed Right-Angled Open-Pin-Field Array Socket)
part A pins: A1, A2, A3, A4, A5, A6, A7, A8, A9, A10, A11, A12, A13, A14, A15, A16, A17, A18, A19, A20, A21, A22, A23, A24, A25, A26, A27, A28, A29, A30, A31, A32, A33, A34, A35, A36, A37, A38, A39, A40, A41, A42, A43, A44, A45, A46, A47, A48, A49, A50, B1, B2, B3, B4, B5, B6, B7, B8, B9, B10, B11 (out), B12, B13 (out), B14, B15, B16, B17 (out), B18, B19, B20, B21, B22, B23, B24, B25, B26, B27, B28, B29, B30, B31, B32, B33, B34, B35, B36, B37, B38, B39, B40, B41, B42, B43, B44, B45, B46, B47, B48, B49, B50
part B pins: C1, C2, C3, C4, C5, C6, C7, C8, C9, C10, C11, C12, C13, C14, C15, C16, C17, C18, C19, C20, C21, C22, C23, C24, C25, C26, C27, C28, C29, C30, C31, C32, C33, C34, C35, C36, C37, C38, C39, C40, C41, C42, C43, C44, C45, C46, C47, C48, C49, C50, D1, D2, D3, D4, D5, D6, D7, D8, D9, D10, D11, D12, D13, D14, D15, D16, D17, D18, D19, D20, D21, D22, D23, D24, D25, D26, D27, D28, D29, D30, D31, D32, D33, D34, D35, D36, D37, D38, D39, D40, D41, D42, D43, D44, D45, D46, D47, D48, D49, D50
part C pins: E1, E2, E3, E4, E5, E6, E7, E8, E9, E10, E11, E12, E13, E14, E15, E16, E17, E18, E19, E20, E21, E22, E23, E24, E25, E26, E27, E28, E29, E30, E31, E32, E33, E34, E35, E36, E37, E38, E39, E40, E41, E42, E43, E44, E45, E46, E47, E48, E49, E50, F1, F2, F3, F4, F5, F6, F7, F8, F9, F10, F11, F12, F13, F14, F15, F16, F17, F18, F19, F20, F21, F22, F23, F24, F25, F26, F27, F28, F29, F30, F31, F32, F33, F34, F35, F36, F37, F38, F39, F40, F41, F42, F43, F44, F45, F46, F47, F48, F49, F50
part D pins: G1, G2, G3, G4, G5, G6, G7, G8, G9, G10, G11, G12, G13, G14, G15, G16, G17, G18, G19, G20, G21, G22, G23, G24, G25, G26, G27, G28, G29, G30, G31, G32, G33, G34, G35, G36, G37, G38, G39, G40, G41, G42, G43, G44, G45, G46, G47, G48, G49, G50, H1, H2, H3, H4, H5, H6, H7, H8, H9, H10, H11, H12, H13, H14, H15, H16, H17, H18, H19, H20, H21, H22, H23, H24, H25, H26, H27, H28, H29, H30, H31, H32, H33, H34, H35, H36, H37, H38, H39, H40, H41, H42, H43, H44, H45, H46, H47, H48, H49, H50
part E pins: I1, I2, I3, I4, I5, I6, I7, I8, I9, I10, I11, I12, I13, I14, I15, I16, I17, I18, I19, I20, I21, I22, I23, I24, I25, I26, I27, I28, I29, I30, I31, I32, I33, I34, I35, I36, I37, I38, I39, I40, I41, I42, I43, I44, I45, I46, I47, I48, I49, I50, J1, J2, J3, J4, J5, J6, J7, J8, J9, J10, J11, J12, J13, J14, J15, J16, J17, J18, J19, J20, J21, J22, J23, J24, J25, J26, J27, J28, J29, J30, J31, J32, J33, J34, J35, J36, J37, J38, J39, J40, J41, J42, J43, J44, J45, J46, J47, J48, J49, J50

## SiT3372
designator U?
Ultra-low Jitter Differential VCXO.; Oscillator Type: VCXO-DE; Frequency: 1 to 220 MHz; Frequency Stability (ppm): ±15, ±25, ±30, ±50; Phase Jitter (rms): 0.21 ps; Output Type: LVPECL, LVDS, HCSL; Voltage Supply (V): 2.5, 2.8, 3.0, 3.3; Package Type (mm²): 5.0x3.2; Operating Temperature Range (°C): -40ºC to +85ºC; ComponentLink1Description: Manufacturer; ComponentLink1URL: https://www.sitime.com/products/lvpecl-lvds-hcsl-oscillators/sit9121; Supplier 1: Digi-Key; Supplier Part Number 1: 1473-SIT3372AI-1B3-33NZ25.000000-ND
footprint SiTime_5032_6 (5.0 x 3.2 mm 6 Pin)
pins: 1 VIN, 2 NC, 3 GND, 4 OUT+ (out), 5 OUT- (out), 6 VDD

## SiT8008
designator U?
Programmable oscillator, featuring wide frequency range, low power consumption, small size and excellent stability.; Frequency: 1 to 110 MHz; Frequency Stability (ppm): ±20, ±25, ±50; Phase Jitter (rms): 1.3 ps; Output Type: LVCMOS; Voltage Supply (V): 1.8V to 3.3V; Package Type (mm²): 5.0x3.2; Operating Temperature Range (°C): -40ºC to +85ºC; ComponentLink1Description: Manufacturer; ComponentLink1URL: https://www.sitime.com/products/lvcmos-oscillators/sit8008; Supplier 1: Mouser; Supplier Part Number 1: 788-8008BI2333S1000G
footprint SiTime_5032_4 (5.0 x 3.2 mm 4 Pin)
pins: 1 NC/OE/ST, 2 GND, 3 OUT (out), 4 VDD

## SiT9121
designator U?
Programmable differential oscillator that supports LVPECL and LVDS output.; Oscillator Type: XO-DE; Frequency: 1 to 220 MHz; Frequency Stability (ppm): ±10, ±20, ±25, ±50; Phase Jitter (rms): 0.6 ps; Output Type: LVPECL, LVDS; Voltage Supply (V): 2.25V to 3.63V; Package Type (mm²): 5.0x3.2; Operating Temperature Range (°C): -40ºC to +85ºC; ComponentLink1Description: Manufacturer; ComponentLink1URL: https://www.sitime.com/products/lvpecl-lvds-hcsl-oscillators/sit9121; Supplier 1: Digi-Key; Supplier 2: Avnet; Supplier Part Number 1: 1473-SIT9121AI-2B3-XXS200.000000YTR-ND; Supplier Part Number 2: SIT9121AI-2B3-XXS200.000000Y
footprint SiTime_5032_6 (5.0 x 3.2 mm 6 Pin)
pins: 1 NC/OE/ST, 2 NC, 3 GND, 4 OUT+ (out), 5 OUT- (out), 6 VCC

## SN55HVD233-SEP
designator U?
Radiation hardened 3.3V CAN transceiver in space enhanced plastic package with standby mode; Supply voltage (V): 3 to 3.6; Bus fault voltage (V): -16 to 16; Signaling rate (Max) (Mbps): 1; Common mode voltage (V): -7 to 12; Isolated: No; Single Event Latch-up (SEL): 43 MeV-cm2/mg; Total Ionizing Dose (TID): 20 krad(Si); ComponentLink1Description: Manufacturer; ComponentLink1URL: https://www.ti.com/product/SN55HVD233-SEP#pps; Rating: Space; Operating temperature range (C): -55 to 125; Package: SOIC 8
footprint TEXAS_SOIC8D (Small Outline Integrated Circuit)
pins: 1 TXD (in), 2 GND, 3 VCC (power), 4 RXD (out), 5 LBK (in), 6 CANL (io), 7 CANH (io), 8 RS (in)

## TPS7H4010-SEP
designator U?
Radiation-hardened, 3.5-V to 32-V, 6-A step-down voltage converter in space-enhanced plastic; Vin (Min) (V): 3.5; Vin (Max) (V): 32; Vout (Min) (V): 1; Vout (Max) (V): 30.4; Iout (Max) (A): 6; Iq (Typ) (uA): 15; Switching frequency (Min) (kHz): 350; Switching frequency (Max) (kHz): 2200; Rating: Space; ComponentLink1Description: Manufacturer; ComponentLink1URL: https://www.ti.com/product/TPS7H4010-SEP?keyMatch=SEP#params; ComponentLink2Description: Datasheet; ComponentLink2URL: https://www.ti.com/lit/ds/symlink/tps7h4010-sep.pdf?ts=1638957806564&ref_url=https%253A%252F%252Fwww.ti.com%252Fproduct%252FTPS7H4010-SEP%253FkeyMatch%253DSEP; Operating temperature range (C): -55 to 125; Supplier 1: Digi-Key; Supplier 2: Mouser; Supplier Part Number 1: 296-TPS7H4010EVM-ND; Supplier Part Number 2: 595-TPS7H4010EVM
footprint TEXAS_WQFN30 (QFN, 30-Leads, Body 6,00x4,00mm, Pitch 0,50mm, Thermal Pad 4,60x2,20mm, IPC Medium Density)
pins: 1 SW, 2 SW, 3 SW, 4 SW, 5 SW, 6 CBOOT, 7 VCC, 8 BIAS, 9 RT, 10 SS_TRK, 11 FB, 12 NC, 13 NC, 14 NC, 15 NC, 16 PGOOD, 17 SYNC_MODE, 18 EN, 19 AGND, 20 PVIN, 21 PVIN, 22 PVIN, 23 PGND, 24 PGND, 25 PGND, 26 PGND, 27 NC, 28 NC, 29 NC, 30 NC, 31 DAP

## TPS51200DRCT
designator U?
3A Sink/Source DDR Termination Regulator w/ VTTREF Buffered Reference for DDR2, DDR3, DDR3L and DDR4 10-VSON -40 to 85; MF: Texas Instruments; DDR memory type: DDR, DDR2, DDR3, DDR3L, LPDDR2, LPDDR3; Control mode: D-CAP, S4/S5; Iout VDDQ (Max) (A): 20; Iq (Typ) (mA): 0.6; Output: VDDQ, VREF, VTT; Vin (Min) (V): 3; Vin (Max) (V): 28; Rating: HiRel Enhanced Product; MP: TPS51200DRCT; Package: VSON-10; Supplier 1: Digi-Key; Supplier 2: Mouser; Supplier Part Number 1: 296-23830-1-ND; Supplier Part Number 2: 595-TPS51200DRCT; Iout VTT (Max) (A): *; Operating temperature range (C): -55ºC to 125ºC
footprint TEXAS_VSON10 (DRC, 3x3mm Body, 0.5 mm Pitch, Plastic Small Outline)
pins: 1 REFIN, 2 VLDOIN, 3 VO, 4 PGND (power), 5 VOSNS, 6 REFOUT, 7 EN (in), 8 GND (power), 9 PGOOD (out), 10 VIN, 11 EP (power)

## TPS62180YZFT
designator U?  (value not drawn)
TPS6218x 4-V to 15-V, 6-A, 2-Phase Step-Down Converters; Body Size (mm): 2.10 mm x 3.10 mm; Vin (Min) (V): 4; Vin (Max) (V): 15; Vout (Min) (V): 0.9; Vout (Max) (V): 6; Iq (Typ) (uA): 30; Switching frequency (Min) (kHz): 1000; Switching frequency (Max) (kHz): 2000; Rating: Catalog; Regulated outputs (#): 1; Package: DSBGA 24; Iout (Max) (A): 6; Operating temperature range (C): -40ºC to 125ºC; ComponentLink1Description: Manufacturer; ComponentLink1URL: https://www.ti.com/product/TPS62184; Supplier 1: Digi-Key; Supplier 2: Mouser; Supplier Part Number 1: 296-38369-6-ND; Supplier Part Number 2: 595-TPS62180YZFT
footprint TEXAS_DSBGA24 (YZF)
pins: A1 VIN1 (power), A2 SW1, A3 PGND (power), A4 VO (out), B1 VIN1 (power), B2 SW1, B3 PGND (power), B4 FB (out), C1 VIN1 (power), C2 SW1, C3 PGND (power), C4 AGND (power), D1 VIN2 (power), D2 SW2, D3 PGND (power), D4 SS/TR, E1 VIN2 (power), E2 SW2, E3 PGND (power), E4 EN (in), F1 VIN2 (power), F2 SW2, F3 PGND (power), F4 PG (out)

## TPS73801-SEP
designator U?
Radiation-hardened, 2.2-V to 20-V, 1-A low-noise adjustable output LDO in Space Enhanced Plastic; Iout (Max) (A): 1; Vin (Max) (V): 20; Vin (Min) (V): 2.2; Vout (Min) (V): 1.21; ComponentLink1Description: Manufacturer; ComponentLink1URL: https://www.ti.com/product/TPS73801-SEP#pps; ComponentLink2Description: Datasheet; ComponentLink2URL: https://www.ti.com/lit/ds/symlink/tps73801-sep.pdf?ts=1639038776346&ref_url=https%253A%252F%252Fwww.ti.com%252Fproduct%252FTPS73801-SEP; Vout (Max) (V): 20; Iq (Typ) (mA): 1; Operating temperature range (C): -55 to 125; Radiation, TID (Typ) (krad): 50; Radiation, SEL (MeV.cm2/mg): 43; Rating: Space
footprint TEXAS_SOT223DCQ (SOT223, 6-Leads, Body 6,50x7,06mm (avg), Pitch 1,27mm, IPC Medium Density)
pins: 1 VIN, 2 VOUT, 3 GND, 4 FB, 5 EN, 6 GND

## TPS74901DRCR
designator U?  (value not drawn)
3-A Low Dropout Linear Regulator With Programmable Soft-Start; Regulated outputs (#): 1; Output options: Adjustable Output; Iout (Max) (A): 3; Vin (Max) (V): 5.5; Vin (Min) (V): 0.8; Vout (Max) (V): 3.6; Noise (uVrms): 20; Thermal resistance θJA (°C/W): 34; Load capacitance (Min) (µF): 2.2; Accuracy (%): 2; PSRR @ 100 KHz (dB): 28; Dropout voltage (Vdo) (Typ) (mV): 120; Rating: Catalog; Vout (Min) (V): 0.8; Iq (Typ) (mA): 3; Operating temperature range (C): -40ºC to 125ºC; ComponentLink1Description: Manufacturer; ComponentLink1URL: https://www.ti.com/product/TPS74901; Supplier 1: Digi-Key; Supplier 2: Mouser; Supplier Part Number 1: 296-48777-1-ND; Supplier Part Number 2: 595-TPS74901DRCR
footprint TEXAS_VSON10 (DRC, 3x3mm Body, 0.5 mm Pitch, Plastic Small Outline)
pins: 1 IN (power), 2 IN (power), 3 PG (out), 4 BIAS (in), 5 EN (in), 6 GND (power), 7 SS, 8 FB (in), 9 OUT (out), 10 OUT (out), 11 EP (power)

## Vita74_Guide_Post
designator MP?, comment RA Keyed Guide Receptacle
Backplane Guide Hardware; ComponentLink1Description: Source; ComponentLink1URL: https://www.vita.com/VNX-Reference-Design
footprint Guide Pin Receptacle

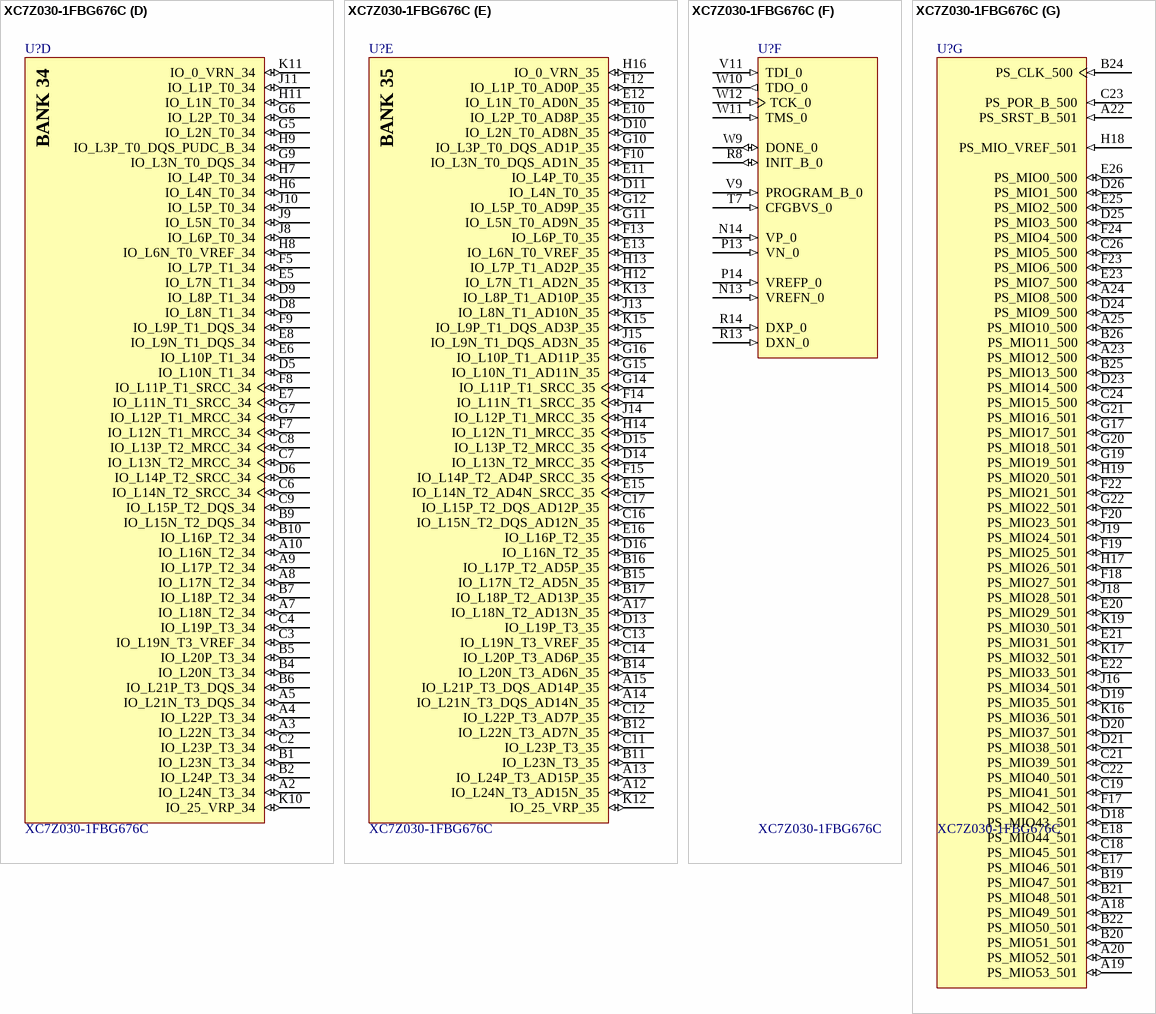
[diagram p7: symbol XC7Z030-1FBG676C]

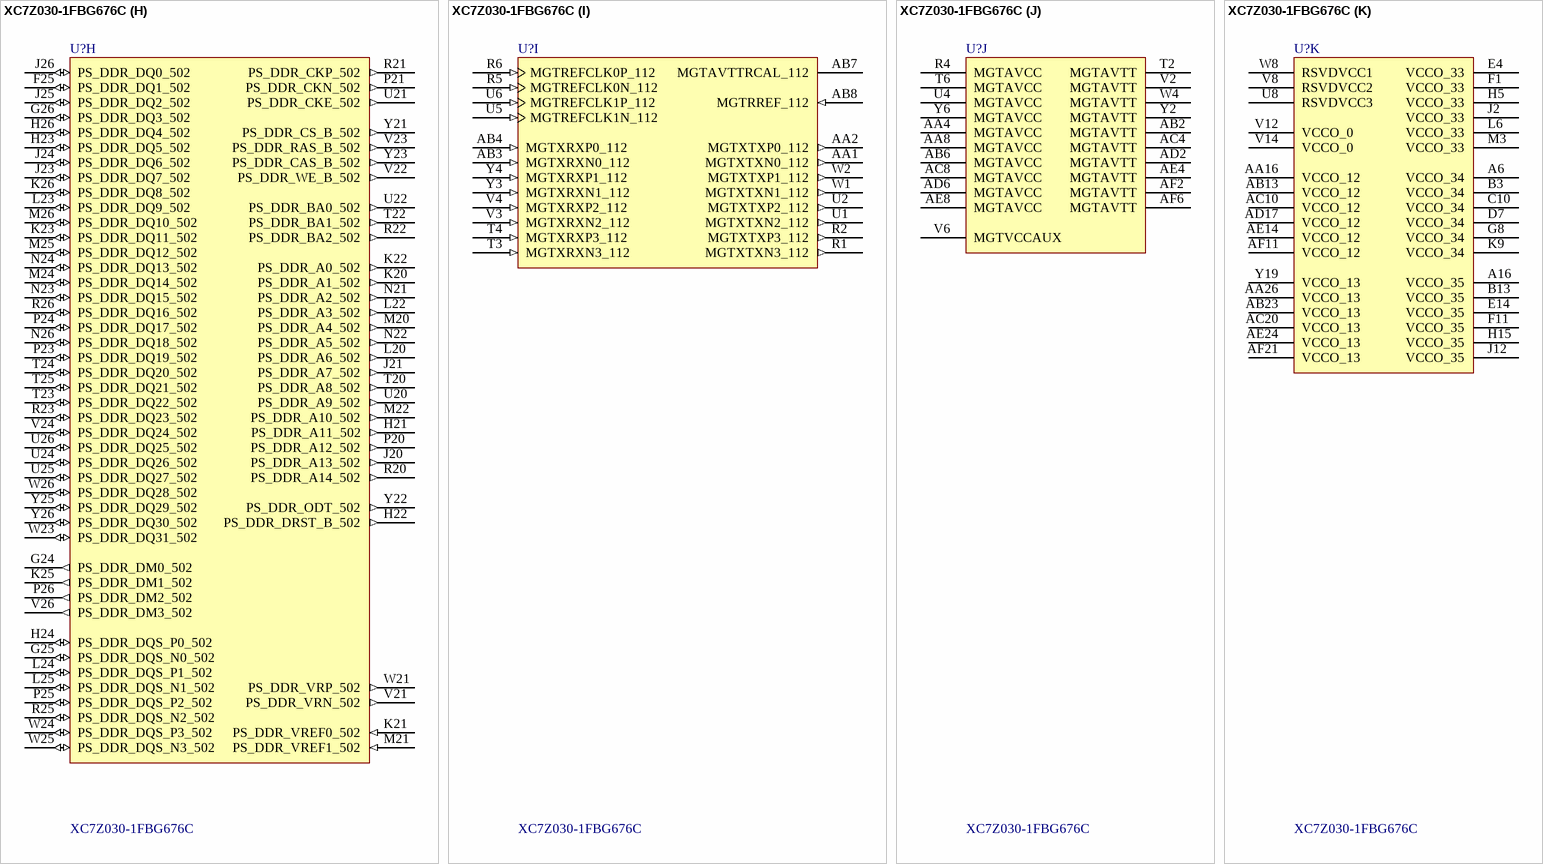
[diagram p8: symbol XC7Z030-1FBG676C]

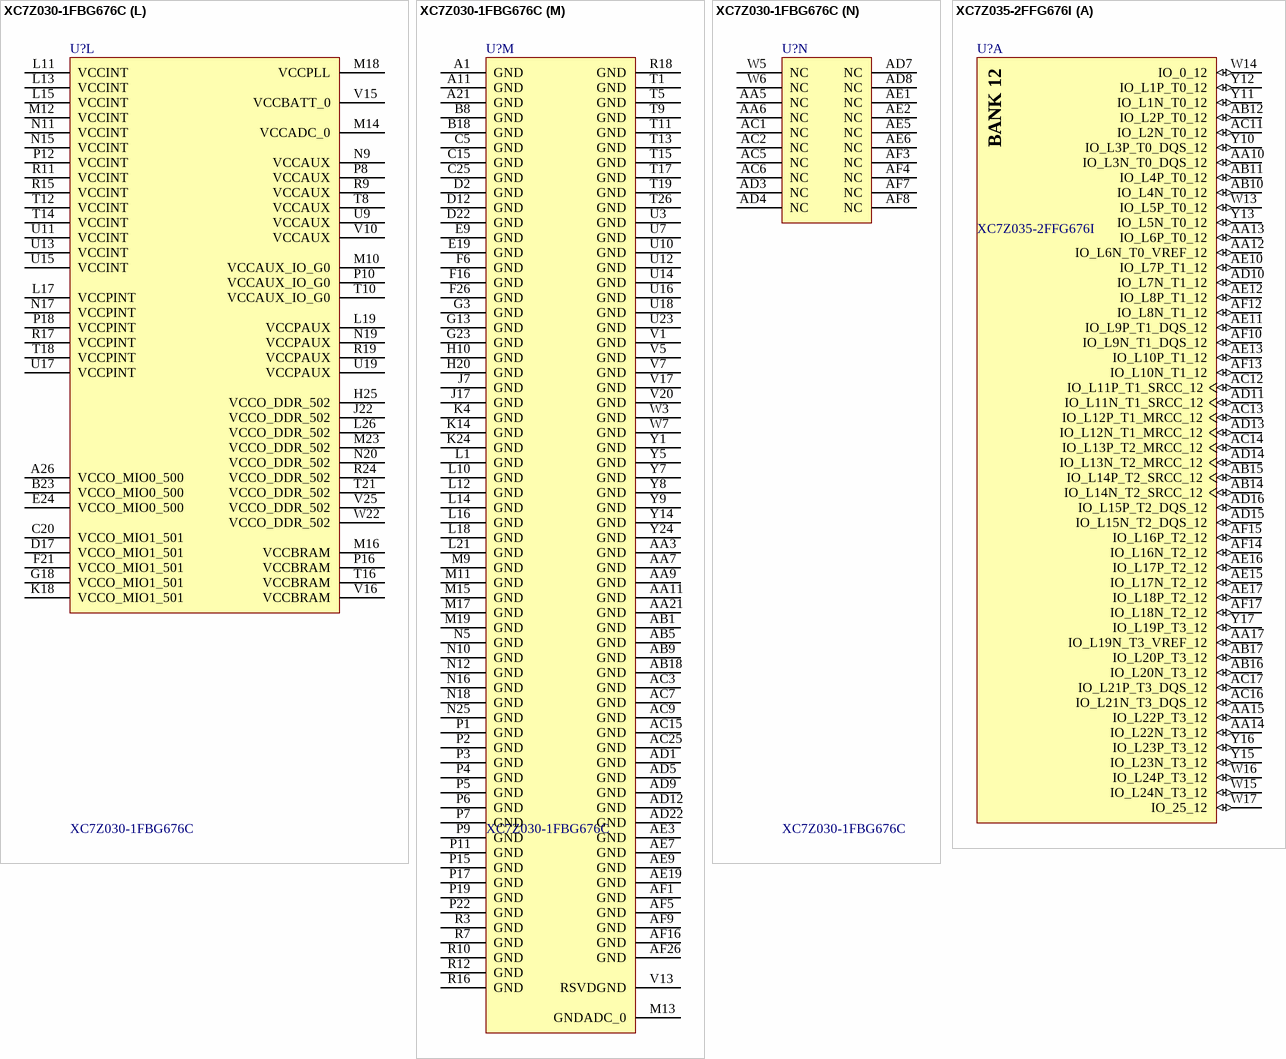
[diagram p9: symbols XC7Z030-1FBG676C to XC7Z035-2FFG676I]